# EAGLE library part HCPL-0531 (library custom)
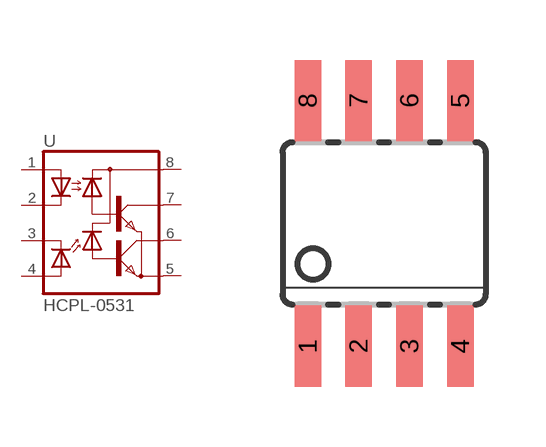
[diagram p16: symbol with the pads of SOIC8; footprint SOIC8]

Designator prefix -

## HCPL-0531  [SOIC8]
1  A1  pas
2  C1  pas
3  C2  pas
4  A2  pas
5  GND  pas
6  VO2  pas
7  VO1  pas
8  VCC  pas

## Footprint SOIC8 (pad centres in mm)
smd 0.66 x 2.032: 1 -1.445,-3.343; 2 -0.175,-3.343; 3 1.095,-3.343; 4 2.365,-3.343; 5 2.365,2.803; 6 1.095,2.803; 7 -0.175,2.803; 8 -1.445,2.803